# Altium footprint library antennas.PcbLib: 4 footprints
Each footprint in its own frame and in the unit in brackets; x right, y up, seen from the top. Pads: shape width x height; smd on the part's side, far side on the other; paste and mask are expansions set on the pad; w line width, h text height; cw(c..) or ccw(c..) is an arc to the next point about the centre after c.
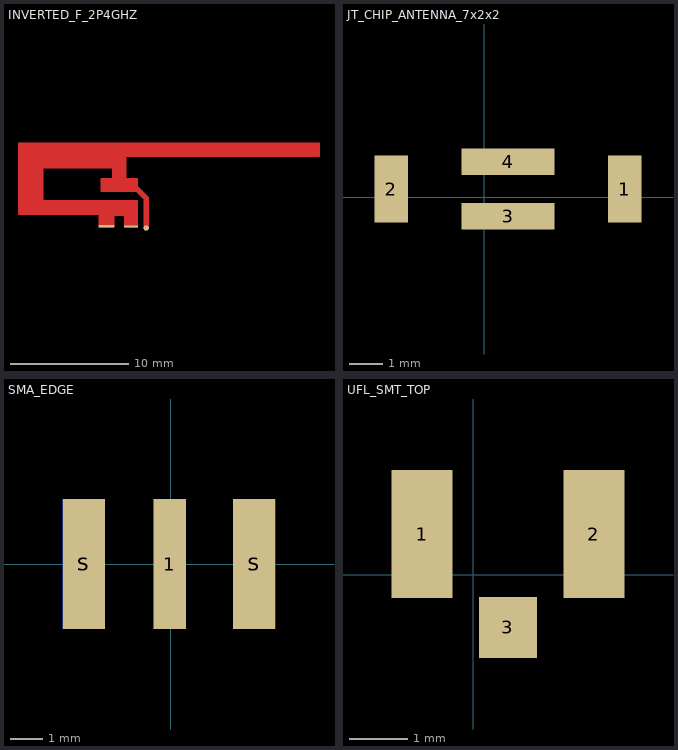
[diagram p0: the footprints below, top view; thin cyan lines are the x and y axes]

## INVERTED_F_2P4GHZ [mil] "2.4 GHz inverted F antenna, TI SWRU120D"
pads (7):
  round 1 smd mask+4: 1(-47569.61,-42812.13) 1(-47536,-42945) 1(-47536,-42845.74) 1(-47536,-42845.74)
  round 17.99 smd mask+4: ANT(-47536,-42945)
  rrect90% 53.15x7.87 smd: GND(-47668.5,-42939.76)
  rrect90% 47.24x7.87 smd: GND(-47586.61,-42940.16)
Top Layer:
  lines w8: -47960,-42896 -47567,-42896 ; -47960,-42888 -47567,-42888 ; -47960,-42880 -47567,-42880 ; -47960,-42872 -47567,-42872 ; -47960,-42864 -47567,-42864 ; -47960,-42856 -47567,-42856 ; -47960,-42848 -47881.96,-42848 ; -47960,-42840 -47881.96,-42840 ; -47960,-42832 -47881.96,-42832 ; -47960,-42824 -47881.96,-42824 ; -47960,-42816 -47881.96,-42816 ; -47960,-42808 -47881.96,-42808 ; -47960,-42800 -47881.96,-42800 ; -47960,-42792 -47881.96,-42792 ; -47960,-42784 -47881.96,-42784 ; -47960,-42776 -47881.96,-42776 ; -47960,-42768 -47881.96,-42768 ; -47960,-42760 -47881.96,-42760 ; -47960,-42752 -47881.96,-42752 ; -47960,-42744 -47881.96,-42744 ; -47960,-42736 -47606.37,-42736 ; -47960,-42728 -47606.37,-42728 ; -47960,-42720 -47606.37,-42720 ; -47960,-42712 -47606.37,-42712 ; -47960,-42704 -47606.37,-42704 ; -47960,-42696 -46960,-42696 ; -47960,-42688 -46960,-42688 ; -47960,-42680 -46960,-42680 ; -47960,-42672 -46960,-42672 ; -47691,-42936 -47645.74,-42936 ; -47691,-42928 -47645.74,-42928 ; -47691,-42920 -47645.74,-42920 ; -47691,-42912 -47645.74,-42912 ; -47691,-42904 -47645.74,-42904 ; -47685.11,-42816 -47567,-42816 ; -47685.11,-42808 -47567,-42808 ; -47685.11,-42800 -47567,-42800 ; -47685.11,-42792 -47567,-42792 ; -47685.11,-42784 -47567,-42784 ; -47645.74,-42776 -47606.37,-42776 ; -47645.74,-42768 -47606.37,-42768 ; -47645.74,-42760 -47606.37,-42760 ; -47645.74,-42752 -47606.37,-42752 ; -47645.74,-42744 -47606.37,-42744 ; -47606.37,-42936 -47567,-42936 ; -47606.37,-42928 -47567,-42928 ; -47606.37,-42920 -47567,-42920 ; -47606.37,-42912 -47567,-42912 ; -47606.37,-42904 -47567,-42904 ; -47567,-42856 -47881.96,-42856 -47881.96,-42743.15 -47645.74,-42743.15 -47645.74,-42782.52 -47685.11,-42782.52 -47685.11,-42821.89 -47567,-42821.89 -47567,-42782.52 -47606.37,-42782.52 -47606.37,-42703.78 -46960,-42703.78 -46960,-42664 -47960,-42664 -47960,-42898 -47939,-42898 -47691,-42899 -47691,-42940 -47645.74,-42940 -47645.74,-42900.63 -47606.37,-42900.63 -47606.37,-42940 -47567,-42940 -47567,-42856
  lines w18: -47569.61,-42812.13 -47536,-42845.74 -47536,-42945

## JT_CHIP_ANTENNA_7x2x2 [mm] "JOHANSON TECHNOLOGY 2450AT43B100E 2.45 GHZ"
pads (4):
  rect 1x2 smd: 1(4.206,0.254) 2(-2.794,0.254)
  rect 2.8x0.8 smd: 3(0.707,-0.561) 4(0.707,1.069)
3D body: height 2, standoff 0, extent -2.852,-0.754 4.332,1.256

## SMA_EDGE [mm] "Right Angle Edge Connector 1.6mm PCB"
pads (5):
  rect 1x4 smd: 1(-0.025,0)
  rect 1.3x4 smd: S(-2.675,0) S(2.575,0)
  rect 1.3x4 smd far side: S(-2.675,0) S(2.575,0)

## UFL_SMT_TOP [mm] "HIROSE  U.FL-R-SMT-1(10)"
pads (3):
  rect 1.05x2.2 smd: 1(-0.875,0.7) 2(2.075,0.7)
  rect 1x1.05 smd: 3(0.6,-0.9)
3D body "U.FL-R-SMT-1.stp": height 1.25, standoff 0, extent -0.9,-0.85 2.1,2.25